# Altium schematic symbol library B41888C7478M000.SCHLIB: 1 symbol
Pins are listed as number, name and electrical type; pins without a type are passive.

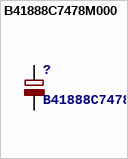
[diagram p0: symbol B41888C7478M000]

## B41888C7478M000
designator ?, comment B41888C7478M000 -  Electrolytic Capacitor, 4700 µF, 35 V, B41888 Series, ± 20%, Radial Leaded, 18 mm
footprint E7,5-18
pins: +, -